# Altium footprint library A0030-D001.PcbLib: 33 footprints (part 1 of 3)
Each footprint in its own frame and in the unit in brackets; x right, y up, seen from the top. Pads: shape width x height; smd on the part's side, far side on the other; paste and mask are expansions set on the pad; w line width, h text height; cw(c..) or ccw(c..) is an arc to the next point about the centre after c.
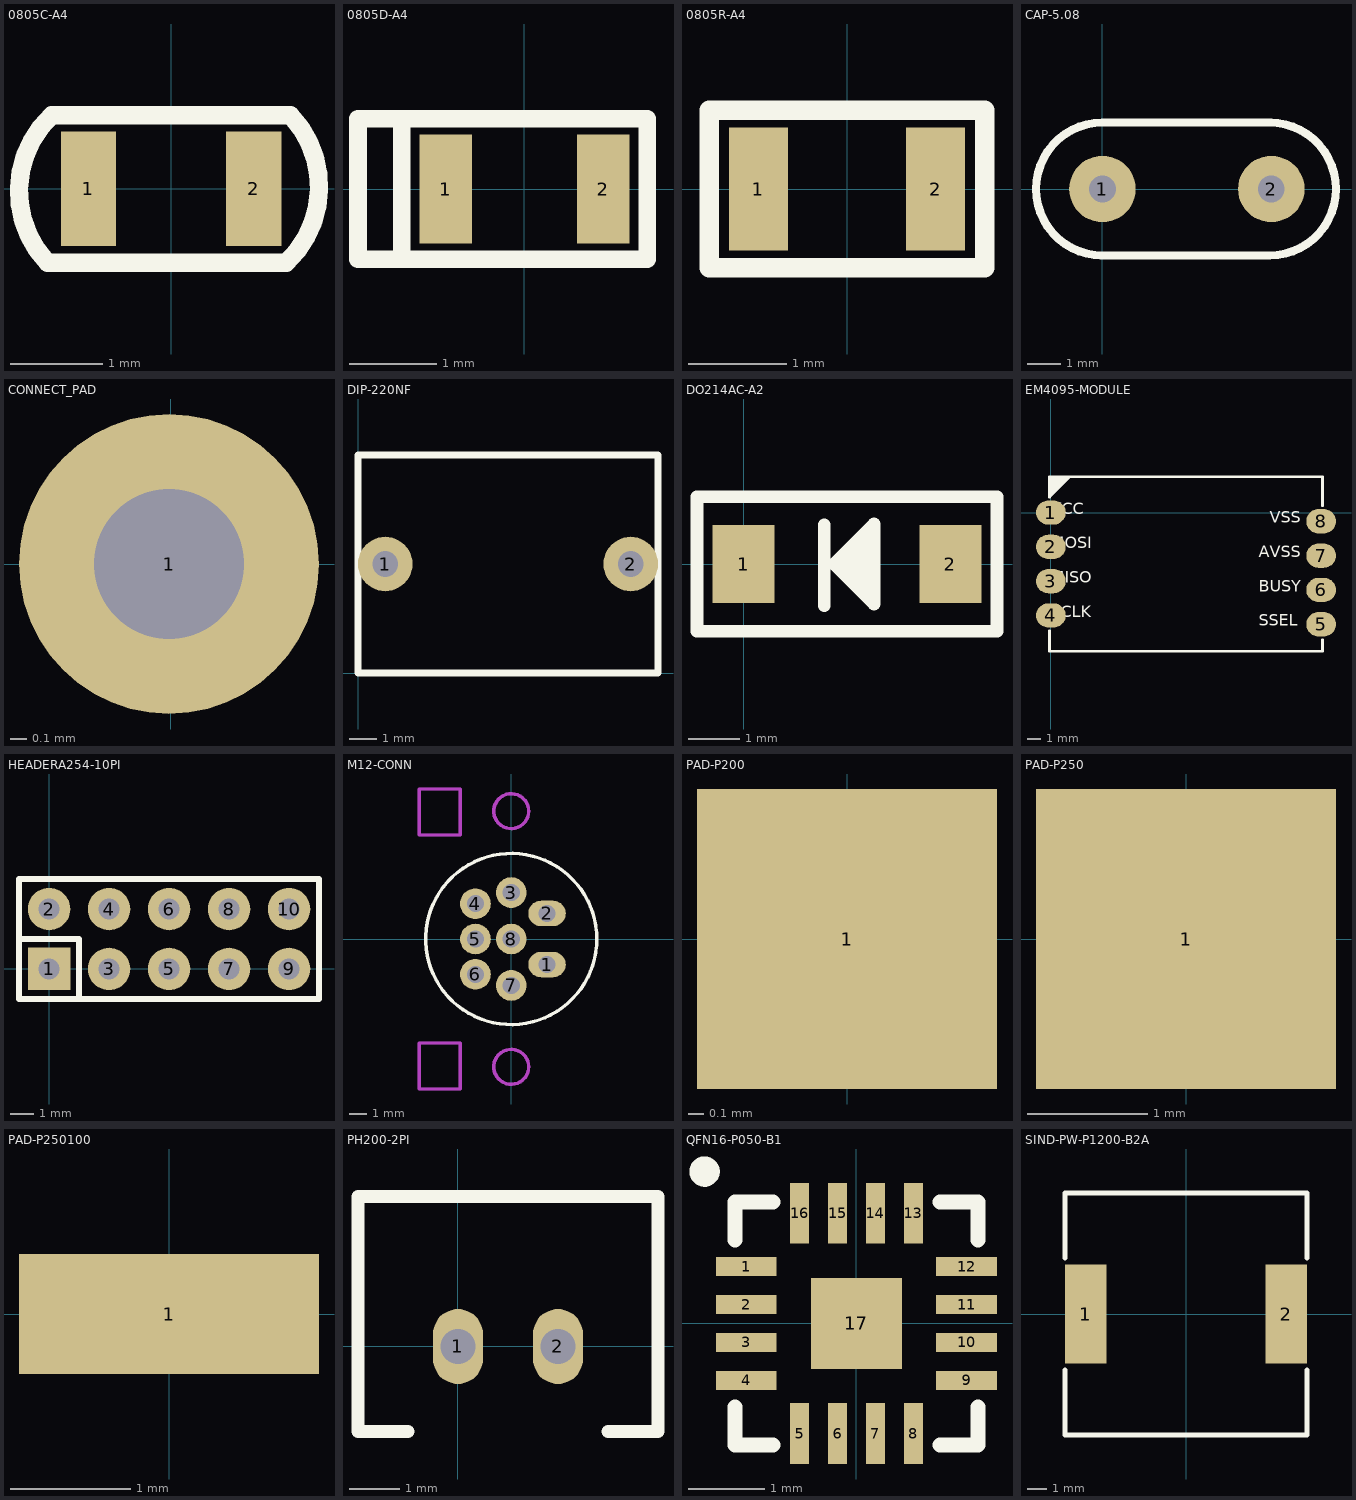
[diagram p0: the footprints below, top view; thin cyan lines are the x and y axes]

## 0805C-A4 [mm]
pads (2):
  rect 0.6x1.25 smd: 1(-0.9,0) 2(0.9,0)
Top Overlay:
  lines w0.2: -1.346,-0.807 cw(c-0.519,-0.027) -1.3,0.8 1.3,0.8 cw(c0.473,0.019) 1.254,-0.807 -1.346,-0.807
3D body "RES0805.step": height 0.55, standoff 0, extent -1,-0.624 1,0.626

## 0805D-A4 [mm]
pads (2):
  rect 0.6x1.25 smd: 1(-0.9,0) 2(0.9,0)
Top Overlay:
  lines w0.2: -1.4,-0.8 1.4,-0.8 1.4,0.8 -1.4,0.8 ; -1.4,-0.8 -1.4,0.8 ; -1.4,-0.8 -1.9,-0.8 -1.9,0.8 -1.4,0.8
3D body "RES0805.step": height 0.55, standoff 0, extent -1,-0.624 1,0.626

## 0805R-A4 [mm]
pads (2):
  rect 0.6x1.25 smd: 1(-0.9,0) 2(0.9,0)
Top Overlay:
  lines w0.2: -1.4,-0.8 1.4,-0.8 1.4,0.8 -1.4,0.8 -1.4,-0.8
3D body "RES0805.step": height 0.55, standoff 0, extent -1,-0.624 1,0.626

## CAP-5.08 [mm]
height 10
pads (2):
  round 2 hole 0.8: 1(0,0) 2(5.08,0)
Top Overlay:
  lines w0.25: -0.055,-2 5.025,-2 ccw(c5.025,0) 5.025,2 ; 0,-2 cw(c0,0) 0,2 5.08,2
3D body "User Library-CAPS6mm.STEP": height 6.1, standoff -3, extent -0.398,-1.584 5.478,1.604

## CONNECT_PAD [mm]
pads (1):
  round 1.8 hole 0.9: 1(-0.01,0)

## DIP-220NF [mm]
height 0.6
pads (2):
  round 2 hole 0.95 mask+0.102: 1(1,4) 2(10,4)
Top Overlay:
  lines w0.254: 0,0 11,0 11,8 0,8 0,0

## DO214AC-A2 [mm]
height 2.2
pads (2):
  rect 1.2x1.5 smd: 1(0,0) 2(4,0)
Top Overlay:
  region: 1.75,0 2.525,0.775 2.525,-0.775
  lines w0.25: 1.56,-0.8 1.56,0.75 ; -0.9,-1.3 4.9,-1.3 4.9,1.3 -0.9,1.3 -0.9,-1.3 ; 1.75,0 2.525,-0.775 2.525,0.775 1.75,0
3D body "SW3dPS-DO-214AC SMA.STEP": height 2.4, standoff 0, extent -0.6,-1.3 4.6,1.3

## EM4095-MODULE [mm]
pads (8):
  oval 2.2x1.8 smd mask+0.102: 1(0,0) 2(0,-2.54) 3(0,-5.08) 4(0,-7.62) 5(20,-8.27) 6(20,-5.73) 7(20,-3.19) 8(20,-0.65)
Top Overlay:
  region: -0.1,2.64 1.5,2.64 -0.1,1.04
  lines w0.2: -0.1,-8.76 -0.1,-10.26 20.1,-10.26 20.1,-9.41 ; -0.1,1.14 -0.1,2.64 20.1,2.64 20.1,0.49
  text "VCC" at 0,-0.415 h1.5
  text "MOSI" at 0,-2.955 h1.5
  text "MISO" at 0,-5.495 h1.5
  text "SCLK" at 0,-8.035 h1.5
  text "VSS" at 16.2,-1.065 h1.5
  text "AVSS" at 15.4,-3.605 h1.5
  text "BUSY" at 15.4,-6.145 h1.5
  text "SSEL" at 15.4,-8.685 h1.5

## HEADERA254-10PI [mm]
pads (10):
  rect 1.8x1.8 hole 0.9: 1(-0.001,0)
  round 1.8 hole 0.9: 2(-0.001,2.539) 3(2.54,0) 4(2.54,2.54) 5(5.08,0) 6(5.08,2.54) 7(7.62,0) 8(7.62,2.54) 9(10.16,0) 10(10.16,2.54)
Top Overlay:
  lines w0.25: -1.268,1.275 1.269,1.275 1.269,-1.27 ; -1.276,-1.27 11.43,-1.27 11.43,3.81 -1.276,3.81 -1.276,-1.27
3D body "SIP2.STEP": height 8.64, standoff -3, extent 8.89,-1.26 11.43,3.82
3D body "SIP2.STEP": height 8.64, standoff -3, extent 6.35,-1.26 8.89,3.82
3D body "SIP2.STEP": height 8.64, standoff -3, extent 3.81,-1.26 6.35,3.82
3D body "SIP2.STEP": height 8.64, standoff -3, extent 1.269,-1.261 3.809,3.819
3D body "SIP2.STEP": height 8.64, standoff -3, extent -1.271,-1.261 1.269,3.819

## M12-CONN [mm]
height 0.6
pads (8):
  oval 2.2x1.5 hole 1: 1(2.1,-1.5) 2(2.1,1.5)
  round 1.8 hole 1: 3(0,2.725) 4(-2.1,2.075) 5(-2.1,0) 6(-2.1,-2.075) 7(0,-2.725) 8(0,0)
Top Overlay:
  circle w0.2: c0,0 r5.02
Keep-Out Layer:
  circle w0.2: c0,7.5 r1.025
  circle w0.2: c0,-7.5 r1.025
  lines w0.2: -5.4,-8.8 -5.4,-6.1 -3,-6.1 -3,-8.8 -5.4,-8.8 ; -5.4,6.1 -5.4,8.8 -3,8.8 -3,6.1 -5.4,6.1
Mechanical 1:
  circle w0.2: c0,7.5 r1.025
  circle w0.2: c0,-7.5 r1.025
  lines w0.2: -5.4,-8.8 -3,-8.8 -3,-6.1 -5.4,-6.1 -5.4,-8.8 ; -5.4,6.1 -3,6.1 -3,8.8 -5.4,8.8 -5.4,6.1

## PAD-P200 [mm]
pads (1):
  rect 2x2 smd mask+0.102: 1(0,0)

## PAD-P250 [mm]
pads (1):
  rect 2.5x2.5 smd: 1(0,0)

## PAD-P250100 [mm]
pads (1):
  rect 2.5x1 smd: 1(0,0)

## PH200-2PI [mm]
pads (2):
  oval 1x1.5 hole 0.7: 1(0,0) 2(2,0)
Top Overlay:
  lines w0.254: -1,-1.7 -2,-1.7 -2,3 4,3 4,-1.7 3,-1.7

## QFN16-P050-B1 [mm]
pads (17):
  rect 0.8x0.25 smd: 1(-1.45,0.75) 2(-1.45,0.25) 3(-1.45,-0.25) 4(-1.45,-0.75) 9(1.45,-0.75) 10(1.45,-0.25) 11(1.45,0.25) 12(1.45,0.75)
  rect 0.25x0.8 smd: 5(-0.75,-1.45) 6(-0.25,-1.45) 7(0.25,-1.45) 8(0.75,-1.45) 13(0.75,1.45) 14(0.25,1.45) 15(-0.25,1.45) 16(-0.75,1.45)
  rect 1.2x1.2 smd: 17(0,0)
Top Overlay:
  circle w0.2: c-2,2 r0.1
  lines w0.2: -1.6,-1.1 -1.6,-1.6 -1.1,-1.6 ; -1.6,1.1 -1.6,1.6 -1.1,1.6 ; 1.1,-1.6 1.6,-1.6 1.6,-1.1 ; 1.1,1.6 1.6,1.6 1.6,1.1

## SIND-PW-P1200-B2A [mm]
pads (2):
  rect 2.1x5 smd: 1(-5.05,0) 2(5.05,0)
Top Overlay:
  lines w0.254: -6.1,-2.83 -6.1,-6.1 6.1,-6.1 6.1,-2.83 ; -6.1,2.83 -6.1,6.1 6.1,6.1 6.1,2.83
3D body "SW3dPS-MSS1260.STEP": height 6.2, standoff 0.06, extent -6.15,-6.15 6.15,6.15